# EAGLE library part 555077-1 (library con-amp)
AMP connector
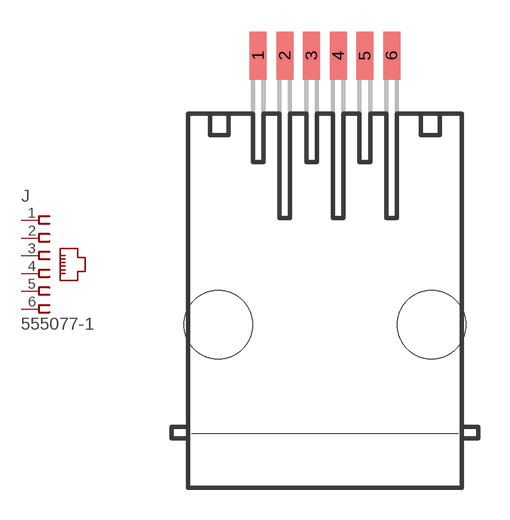
[diagram p32: symbol with the pads of 555077-1; footprint 555077-1]

Designator prefix J

## 555077-1  [555077-1]
1  1  pas
2  2  pas
3  3  pas
4  4  pas
5  5  pas
6  6  pas

## Footprint 555077-1 (pad centres in mm)
Modular Jack with Panel Stops
smd 0.813 x 2.286: 1 -3.175,12.803; 2 -1.905,12.803; 3 -0.635,12.803; 4 0.635,12.803; 5 1.905,12.803; 6 3.175,12.803
hole 3.251 at -5.08,0
hole 3.251 at 5.08,0